# EAGLE library part AT45DB642D (library SHC)
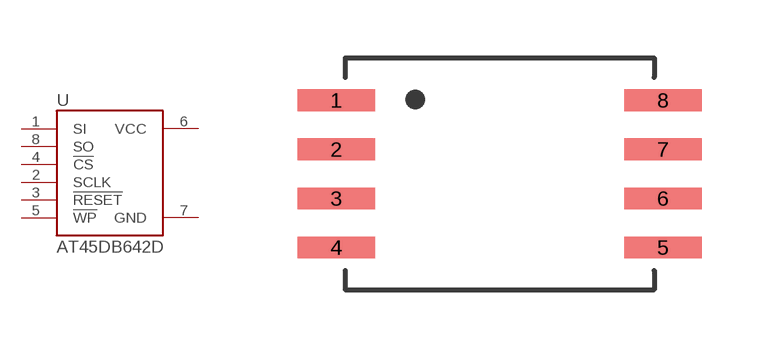
[diagram p10: symbol with the pads of 8CN3; footprint 8CN3]

Designator prefix -

## AT45DB642D  [8CN3]
1  SI
2  SCLK
3  !RESET
4  !CS
5  !WP
6  VCC
7  GND
8  SO

## Footprint 8CN3 (pad centres in mm)
smd 2 x 0.56: 1 -4.23,1.96; 2 -4.23,0.69; 3 -4.23,-0.58; 4 -4.23,-1.85; 5 4.23,-1.85; 6 4.23,-0.58; 7 4.23,0.69; 8 4.23,1.96